# Altium footprint library PcbLib1.PcbLib: 24 footprints (part 1 of 2)
Each footprint in its own frame and in the unit in brackets; x right, y up, seen from the top. Pads: shape width x height; smd on the part's side, far side on the other; paste and mask are expansions set on the pad; w line width, h text height; cw(c..) or ccw(c..) is an arc to the next point about the centre after c.
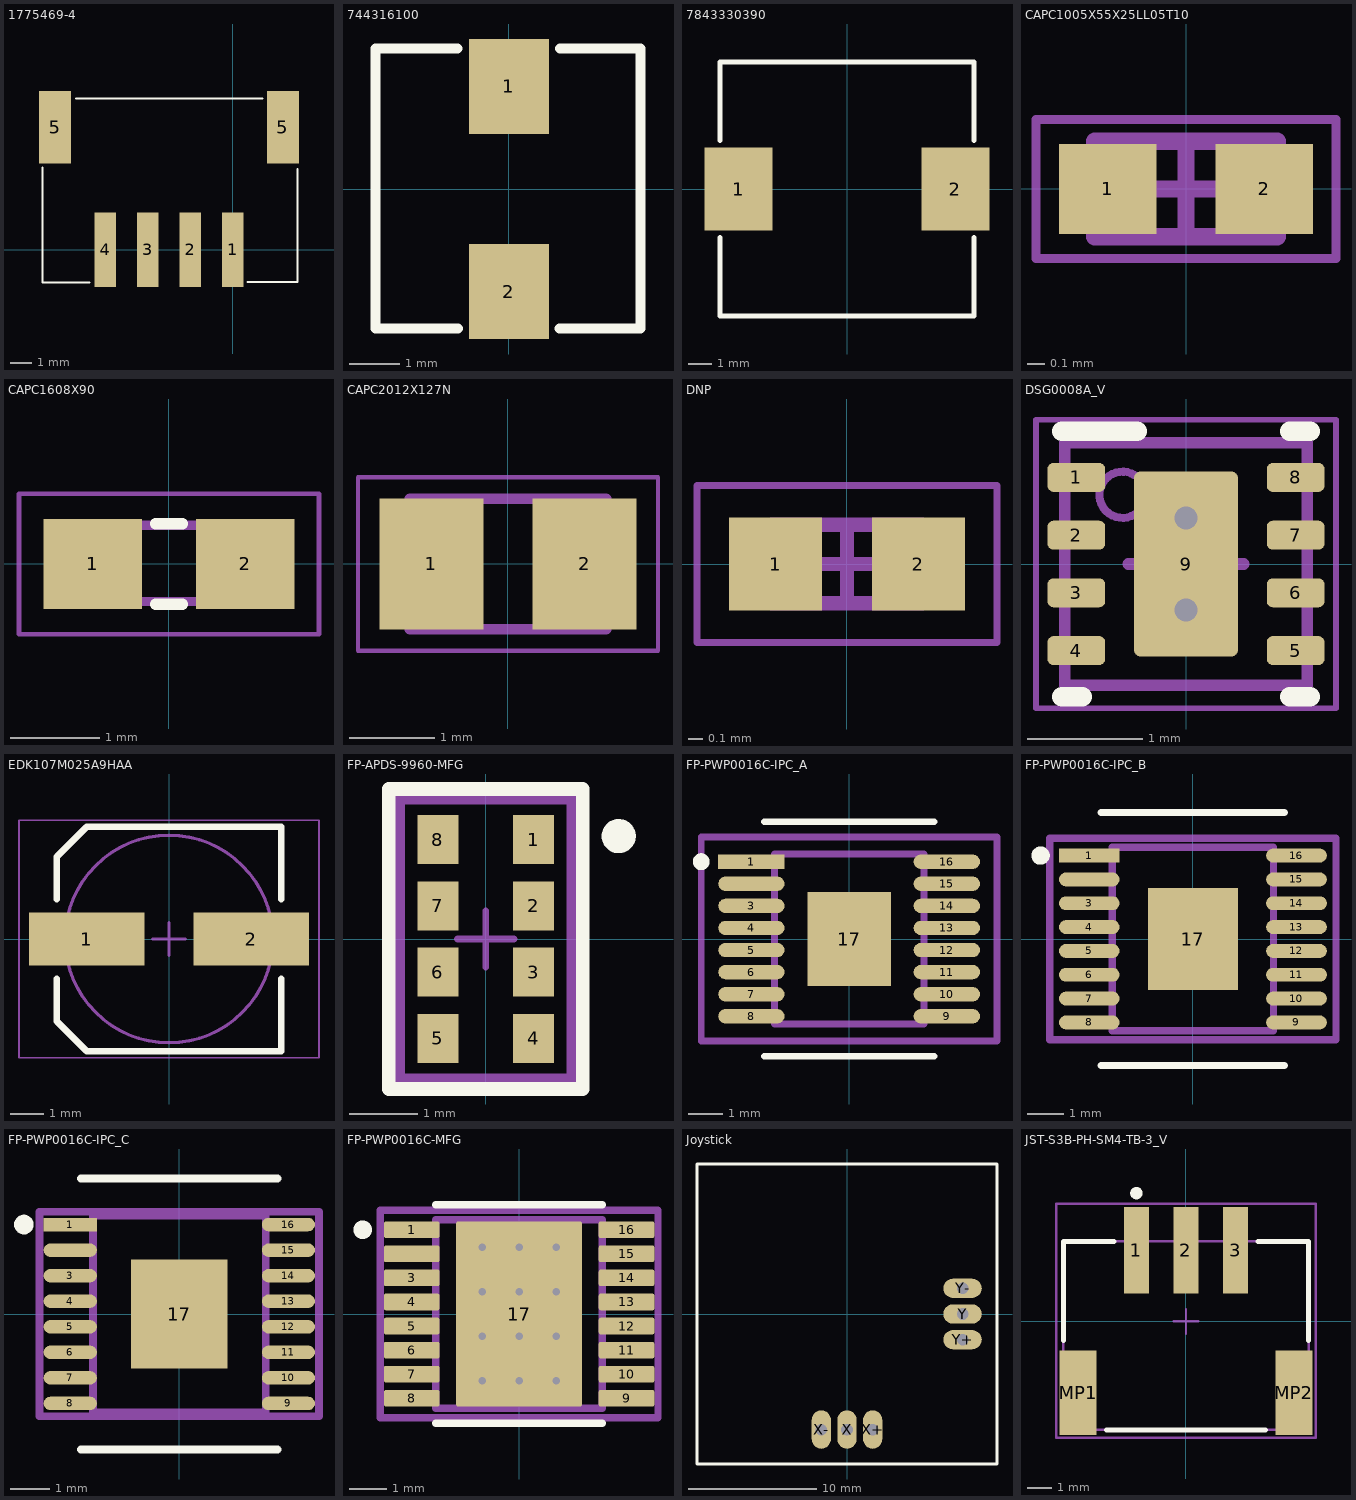
[diagram p0: the footprints below, top view; thin cyan lines are the x and y axes]

## 1775469-4 [mm]
height 5.5
pads (6):
  rect 1x3.5 smd: 1(0,0) 2(-2,0) 3(-4,0) 4(-6,0)
  rect 1.5x3.4 smd: 5(-8.35,5.75) 5(2.35,5.75)
Top Overlay:
  lines w0.1: -8.941,3.861 -8.941,-1.549 -6.731,-1.549 ; -7.366,7.112 1.397,7.112 ; 0.686,-1.524 3.048,-1.524 ; 3.023,-1.499 3.048,-1.524 ; 3.048,3.785 3.048,-1.524
3D body "S4B-PH-SM4-TB.STEP": height 5.61, standoff 0.01, extent -8.896,-1.539 3.004,7.061

## 744316100 [mm]
pads (2):
  rect 1.6x1.9 smd: 1(0,2.05) 2(0,-2.05)
Top Overlay:
  lines w0.2: -1.028,2.806 -2.667,2.806 -2.667,-2.794 -1.016,-2.794 ; 1.016,-2.794 2.633,-2.794 2.633,2.806 1.028,2.806
3D body: height 4, standoff 0, extent -2.54,-2.667 2.54,2.667

## 7843330390 [mm]
pads (2):
  rect 2.85x3.5 smd: 1(-4.55,0) 2(4.55,0)
Top Overlay:
  lines w0.2: -5.334,-2.032 -5.334,-5.334 5.334,-5.334 5.334,-2.032 ; -5.334,2.032 -5.334,5.334 5.334,5.334 5.334,2.032
3D body: height 11, standoff 0, extent -5.207,-5.207 5.207,5.207

## CAPC1005X55X25LL05T10 [mm] "Chip Capacitor, 2-Leads, Body 1.05x0.55mm, IPC High Density"
height 0.55
pads (2):
  rect 0.56x0.52 smd: 1(-0.45,0) 2(0.45,0)
Top 3D Body:
  lines w0.1: -0.525,-0.275 -0.525,0.275 0.525,0.275 0.525,-0.275 -0.525,-0.275
Top Courtyard:
  lines w0.05: -0.864,-0.4 -0.864,0.4 0.864,0.4 0.864,-0.4 -0.864,-0.4
  lines w0.1: -0.275,0 0.275,0 ; 0,-0.275 0,0.275
3D body "CAPC1005X06L.step": height 0.55, standoff 0, extent -0.525,-0.275 0.525,0.275

## CAPC1608X90 [mm]
pads (2):
  rect 1.1x1 smd: 1(-0.85,0) 2(0.85,0)
Top Overlay:
  lines w0.127: -0.15,-0.45 0.15,-0.45 ; -0.15,0.45 0.15,0.45
Top 3D Body:
  lines w0.102: -0.356,-0.419 0.356,-0.419 ; -0.356,0.432 0.356,0.432
Top Courtyard:
  lines w0.051: -1.673,-0.783 -1.673,0.783 1.673,0.783 1.673,-0.783 -1.673,-0.783
3D body "step_temp.STEP": height 0.87, standoff 0, extent -0.8,-0.4 0.8,0.4

## CAPC2012X127N [mm]
pads (2):
  rect 1.21x1.53 smd: 1(-0.891,0) 2(0.891,0)
Mechanical 13:
  lines w0.127: -1.14,-0.76 1.14,-0.76 1.14,0.76 -1.14,0.76 -1.14,-0.76
Mechanical 15:
  lines w0.05: -1.746,-1.01 1.746,-1.01 1.746,1.01 -1.746,1.01 -1.746,-1.01

## DNP [mm]
height 0.4
pads (2):
  rect 0.65x0.65 smd: 1(-0.5,0) 2(0.5,0)
Top 3D Body:
  lines w0.1: -0.525,-0.275 -0.525,0.275 0.525,0.275 0.525,-0.275 -0.525,-0.275
Top Courtyard:
  lines w0.05: -1.05,-0.55 -1.05,0.55 1.05,0.55 1.05,-0.55 -1.05,-0.55
  lines w0.1: -0.275,0 0.275,0 ; 0,-0.275 0,0.275

## DSG0008A_V [mm] "SON, 8-Leads, Body 2x2mm, Pitch 0.5mm, Thermal Pad 1.6x0.9mm, TI Recommended"
height 0.8
pads (9):
  rrect40% 0.5x0.25 smd: 1(-0.95,0.75) 2(-0.95,0.25) 3(-0.95,-0.25) 4(-0.95,-0.75) 5(0.95,-0.75) 6(0.95,-0.25) 7(0.95,0.25) 8(0.95,0.75)
  rrect11% 0.9x1.6 smd paste-0.45: 9(0,0)
via 0,0.4 diameter 0.5 hole 0.2
via 0,-0.4 diameter 0.5 hole 0.2
Top Overlay:
  lines w0.17: -1.075,-1.15 -0.9,-1.15 ; -1.075,1.15 -0.425,1.15 ; 0.9,-1.15 1.075,-1.15 ; 0.9,1.15 1.075,1.15
Top Paste:
  rectangle: -0.427,-0.733 0.427,0.733
Mechanical 1:
  text ".Designator" at -0.925,-0.25 h0.51
Mechanical 13:
  circle w0.07: c-0.55,0.6 r0.2
  lines w0.1: -1.05,-1.05 -1.05,1.05 1.05,1.05 1.05,-1.05 -1.05,-1.05
Mechanical 15:
  lines w0.05: -1.3,-1.25 1.3,-1.25 1.3,1.25 -1.3,1.25 -1.3,-1.25
  lines w0.1: -0.5,0 0.5,0 ; 0,-0.5 0,0.5
3D body: height 0.8, standoff 0, extent -1.05,-1.05 1.05,1.05
3D body: height 0.8, standoff 0.5, extent -0.749,0.401 -0.351,0.799

## EDK107M025A9HAA [mm] "Aluminum Electrolytic Capacitor, Diameter 6.3mm, Height 8mm, Pitch 5.4mm"
height 8
pads (2):
  rect 3.5x1.6 smd: 1(-2.5,0) 2(2.5,0)
Top Overlay:
  lines w0.2: -3.4,-1.2 -3.4,-2.5 -2.5,-3.4 3.4,-3.4 3.4,-1.2 ; -3.4,1.2 -3.4,2.5 -2.5,3.4 3.4,3.4 3.4,1.2
Mechanical 13:
  circle w0.1: c0,0 r3.15
Mechanical 15:
  lines w0.05: -4.55,-3.6 4.55,-3.6 4.55,3.6 -4.55,3.6 -4.55,-3.6
  lines w0.1: -0.5,0 0.5,0 ; 0,-0.5 0,0.5
3D body: height 8, standoff 0, extent -3.144,-3.125 3.144,3.15

## FP-APDS-9960-MFG [mm]
pads (8):
  rect 0.6x0.72 smd paste+0 mask+0: 1(0.7,1.455) 2(0.7,0.485) 3(0.7,-0.485) 4(0.7,-1.455) 5(-0.7,-1.455) 6(-0.7,-0.485) 7(-0.7,0.485) 8(-0.7,1.455)
Top Overlay:
  circle w0.25: c1.945,1.505 r0.125
  lines w0.2: -1.42,-2.195 -1.42,2.195 1.42,2.195 1.42,-2.195 -1.42,-2.195
Top 3D Body:
  lines w0.2: -1.28,-2.07 -1.28,2.07 1.28,2.07 1.28,-2.07 -1.28,-2.07
Top Courtyard:
  lines w0.2: -1.38,-2.17 -1.38,2.17 1.38,2.17 1.38,-2.17 -1.38,-2.17
Top Assembly:
  lines w0.2: -1.38,-2.17 -1.38,2.17 1.38,2.17 1.38,-2.17 -1.38,-2.17
  text ".Designator" at 0,0 h1
Top Component Center:
  lines w0.1: -0.414,0 0.414,0 ; 0,-0.414 0,0.414
3D body "IC_Broadcom_APDS-9960_eec.STEP": height 0.25, standoff 0, extent -1.38,-2.17 1.38,2.17

## FP-PWP0016C-IPC_A [mm]
pads (17):
  rect 1.955x0.421 smd paste+0 mask+0: 1(-2.875,2.275)
  rrect100% 1.955x0.421 smd paste+0 mask+0: 3(-2.875,0.975) 4(-2.875,0.325) 5(-2.875,-0.325) 6(-2.875,-0.975) 7(-2.875,-1.625) 8(-2.875,-2.275) 9(2.875,-2.275) 10(2.875,-1.625) 11(2.875,-0.975) 12(2.875,-0.325) 13(2.875,0.325) 14(2.875,0.975) 15(2.875,1.625) 16(2.875,2.275) ""(-2.875,1.625)
  rect 2.46x2.77 smd paste-1000 mask+0: 17(0,0)
Top Overlay:
  circle w0.25: c-4.353,2.275 r0.125
  lines w0.2: -2.5,-3.45 2.5,-3.45 ; -2.5,3.45 2.5,3.45
Top Paste:
  rectangle: -0.752,-0.907 0.752,0.907
Top 3D Body:
  lines w0.2: -2.2,-2.5 -2.2,2.5 2.2,2.5 2.2,-2.5 -2.2,-2.5
Top Courtyard:
  lines w0.2: -4.353,-3 -4.353,3 4.353,3 4.353,-3 -4.353,-3
Top Assembly:
  lines w0.2: -4.353,-3 -4.353,3 4.353,3 4.353,-3 -4.353,-3
  text ".Designator" at 0,0 h1
Top Component Center:
  lines w0.1: -0.5,0 0.5,0 ; 0,-0.5 0,0.5
3D body "IC_Texas_Instruments_TPS61032PWPR_eec.STEP": height 0.25, standoff 0, extent -4.353,-3 4.353,3

## FP-PWP0016C-IPC_B [mm]
pads (17):
  rect 1.655x0.381 smd paste+0 mask+0: 1(-2.825,2.275)
  rrect100% 1.655x0.381 smd paste+0 mask+0: 3(-2.825,0.975) 4(-2.825,0.325) 5(-2.825,-0.325) 6(-2.825,-0.975) 7(-2.825,-1.625) 8(-2.825,-2.275) 9(2.825,-2.275) 10(2.825,-1.625) 11(2.825,-0.975) 12(2.825,-0.325) 13(2.825,0.325) 14(2.825,0.975) 15(2.825,1.625) 16(2.825,2.275) ""(-2.825,1.625)
  rect 2.46x2.77 smd paste-1000 mask+0: 17(0,0)
Top Overlay:
  circle w0.25: c-4.153,2.275 r0.125
  lines w0.2: -2.5,-3.45 2.5,-3.45 ; -2.5,3.45 2.5,3.45
Top Paste:
  rectangle: -0.752,-0.907 0.752,0.907
Top 3D Body:
  lines w0.2: -2.2,-2.5 -2.2,2.5 2.2,2.5 2.2,-2.5 -2.2,-2.5
Top Courtyard:
  lines w0.2: -3.903,-2.75 -3.903,2.75 3.903,2.75 3.903,-2.75 -3.903,-2.75
Top Assembly:
  lines w0.2: -3.903,-2.75 -3.903,2.75 3.903,2.75 3.903,-2.75 -3.903,-2.75
  text ".Designator" at 0,0 h1
Top Component Center:
  lines w0.1: -0.5,0 0.5,0 ; 0,-0.5 0,0.5
3D body "IC_Texas_Instruments_TPS61032PWPR_eec.STEP": height 0.25, standoff 0, extent -3.903,-2.75 3.903,2.75

## FP-PWP0016C-IPC_C [mm]
pads (17):
  rect 1.355x0.341 smd paste+0 mask+0: 1(-2.775,2.275)
  rrect100% 1.355x0.341 smd paste+0 mask+0: 3(-2.775,0.975) 4(-2.775,0.325) 5(-2.775,-0.325) 6(-2.775,-0.975) 7(-2.775,-1.625) 8(-2.775,-2.275) 9(2.775,-2.275) 10(2.775,-1.625) 11(2.775,-0.975) 12(2.775,-0.325) 13(2.775,0.325) 14(2.775,0.975) 15(2.775,1.625) 16(2.775,2.275) ""(-2.775,1.625)
  rect 2.46x2.77 smd paste-1000 mask+0: 17(0,0)
Top Overlay:
  circle w0.25: c-3.953,2.275 r0.125
  lines w0.2: -2.5,-3.45 2.5,-3.45 ; -2.5,3.45 2.5,3.45
Top Paste:
  rectangle: -0.752,-0.907 0.752,0.907
Top 3D Body:
  lines w0.2: -2.2,-2.5 -2.2,2.5 2.2,2.5 2.2,-2.5 -2.2,-2.5
Top Courtyard:
  lines w0.2: -3.553,-2.6 -3.553,2.6 3.553,2.6 3.553,-2.6 -3.553,-2.6
Top Assembly:
  lines w0.2: -3.553,-2.6 -3.553,2.6 3.553,2.6 3.553,-2.6 -3.553,-2.6
  text ".Designator" at 0,0 h1
Top Component Center:
  lines w0.1: -0.5,0 0.5,0 ; 0,-0.5 0,0.5
3D body "IC_Texas_Instruments_TPS61032PWPR_eec.STEP": height 0.25, standoff 0, extent -3.553,-2.6 3.553,2.6

## FP-PWP0016C-MFG [mm]
pads (17):
  rrect22% 1.5x0.45 smd paste+0 mask+0: 1(-2.9,2.275) 3(-2.9,0.975) 4(-2.9,0.325) 5(-2.9,-0.325) 6(-2.9,-0.975) 7(-2.9,-1.625) 8(-2.9,-2.275) 9(2.9,-2.275) 10(2.9,-1.625) 11(2.9,-0.975) 12(2.9,-0.325) 13(2.9,0.325) 14(2.9,0.975) 15(2.9,1.625) 16(2.9,2.275) ""(-2.9,1.625)
  rrect3% 3.4x5 smd paste-1000 mask-1000: 17(0,0)
via -1,1.8 diameter 0.5 hole 0.2
via -1,0.6 diameter 0.5 hole 0.2
via -1,-0.6 diameter 0.5 hole 0.2
via -1,-1.8 diameter 0.5 hole 0.2
via 0,1.8 diameter 0.5 hole 0.2
via 0,0.6 diameter 0.5 hole 0.2
via 0,-0.6 diameter 0.5 hole 0.2
via 0,-1.8 diameter 0.5 hole 0.2
via 1,1.8 diameter 0.5 hole 0.2
via 1,0.6 diameter 0.5 hole 0.2
via 1,-0.6 diameter 0.5 hole 0.2
via 1,-1.8 diameter 0.5 hole 0.2
Top Overlay:
  circle w0.25: c-4.225,2.275 r0.125
  lines w0.2: -2.25,-2.95 2.25,-2.95 ; -2.25,2.95 2.25,2.95
Top Paste:
  region: -1.23,-1.105 -1.23,1.105 -1.23,1.115 -1.222,1.133 -1.208,1.147 -1.19,1.155 -1.18,1.155 1.18,1.155 1.19,1.155 1.208,1.147 1.222,1.133 1.23,1.115 1.23,1.105 1.23,-1.105 1.23,-1.115 1.222,-1.133 1.208,-1.147 1.19,-1.155 1.18,-1.155 -1.18,-1.155 -1.19,-1.155 -1.208,-1.147 -1.222,-1.133 -1.23,-1.115
Top Solder:
  region: -1.23,-1.105 -1.23,1.105 -1.23,1.115 -1.222,1.133 -1.208,1.147 -1.19,1.155 -1.18,1.155 1.18,1.155 1.19,1.155 1.208,1.147 1.222,1.133 1.23,1.115 1.23,1.105 1.23,-1.105 1.23,-1.115 1.222,-1.133 1.208,-1.147 1.19,-1.155 1.18,-1.155 -1.18,-1.155 -1.19,-1.155 -1.208,-1.147 -1.222,-1.133 -1.23,-1.115
Top 3D Body:
  lines w0.2: -2.25,-2.55 2.25,-2.55 2.25,2.55 -2.25,2.55 -2.25,-2.55
Top Courtyard:
  lines w0.2: -3.75,-2.8 3.75,-2.8 3.75,2.8 -3.75,2.8 -3.75,-2.8
Top Assembly:
  lines w0.2: -3.75,-2.8 3.75,-2.8 3.75,2.8 -3.75,2.8 -3.75,-2.8
  text ".Designator" at 0,0.189 h1
Top Component Center:
  lines w0.1: -0.5,0 0.5,0 ; 0,-0.5 0,0.5
3D body "IC_Texas_Instruments_TPS61032PWPR_eec.STEP": height 0.25, standoff 0, extent -3.75,-2.8 3.75,2.8

## Joystick [mm]
pads (6):
  oval 1.5x3 hole 0.9: X(0,-9) X+(2,-9) X-(-2,-9)
  oval 3x1.5 hole 0.9: Y(9,0) Y+(9,-2) Y-(9,2)
Top Overlay:
  lines w0.2: -11.684,-11.684 11.684,-11.684 11.684,11.684 -11.684,11.684 -11.684,-11.684
3D body: height 2.9, standoff 0, extent -11.684,-11.684 11.684,11.684

## JST-S3B-PH-SM4-TB-3_V [mm] "Header, 3-Leads, Body 9.9x7.6mm, Pitch 2mm"
height 5.5
pads (5):
  rect 1x3.5 smd: 1(-2,2.875) 2(0,2.875) 3(2,2.875)
  rect 1.5x3.4 smd: MP1(-4.35,-2.875) MP2(4.35,-2.875)
Top Overlay:
  circle w0.25: c-2,5.175 r0.125
  lines w0.2: -4.95,-0.775 -4.95,3.225 -2.9,3.225 ; -3.2,-4.375 3.2,-4.375 ; 2.9,3.225 4.95,3.225 4.95,-0.775
Top 3D Body:
  lines w0.1: -4.95,-4.375 -4.95,3.225 4.95,3.225 4.95,-4.375 -4.95,-4.375
Top Courtyard:
  lines w0.1: -0.5,0 0.5,0 ; 0,-0.5 0,0.5 ; -5.225,-4.7 -5.225,4.75 5.225,4.75 5.225,-4.7 -5.225,-4.7
3D body: height 5.5, standoff 0, extent -4.95,-4.375 4.95,3.225